# Altium footprint library curgen.PcbLib: 17 footprints (part 1 of 2)
Each footprint in its own frame and in the unit in brackets; x right, y up, seen from the top. Pads: shape width x height; smd on the part's side, far side on the other; paste and mask are expansions set on the pad; w line width, h text height; cw(c..) or ccw(c..) is an arc to the next point about the centre after c.
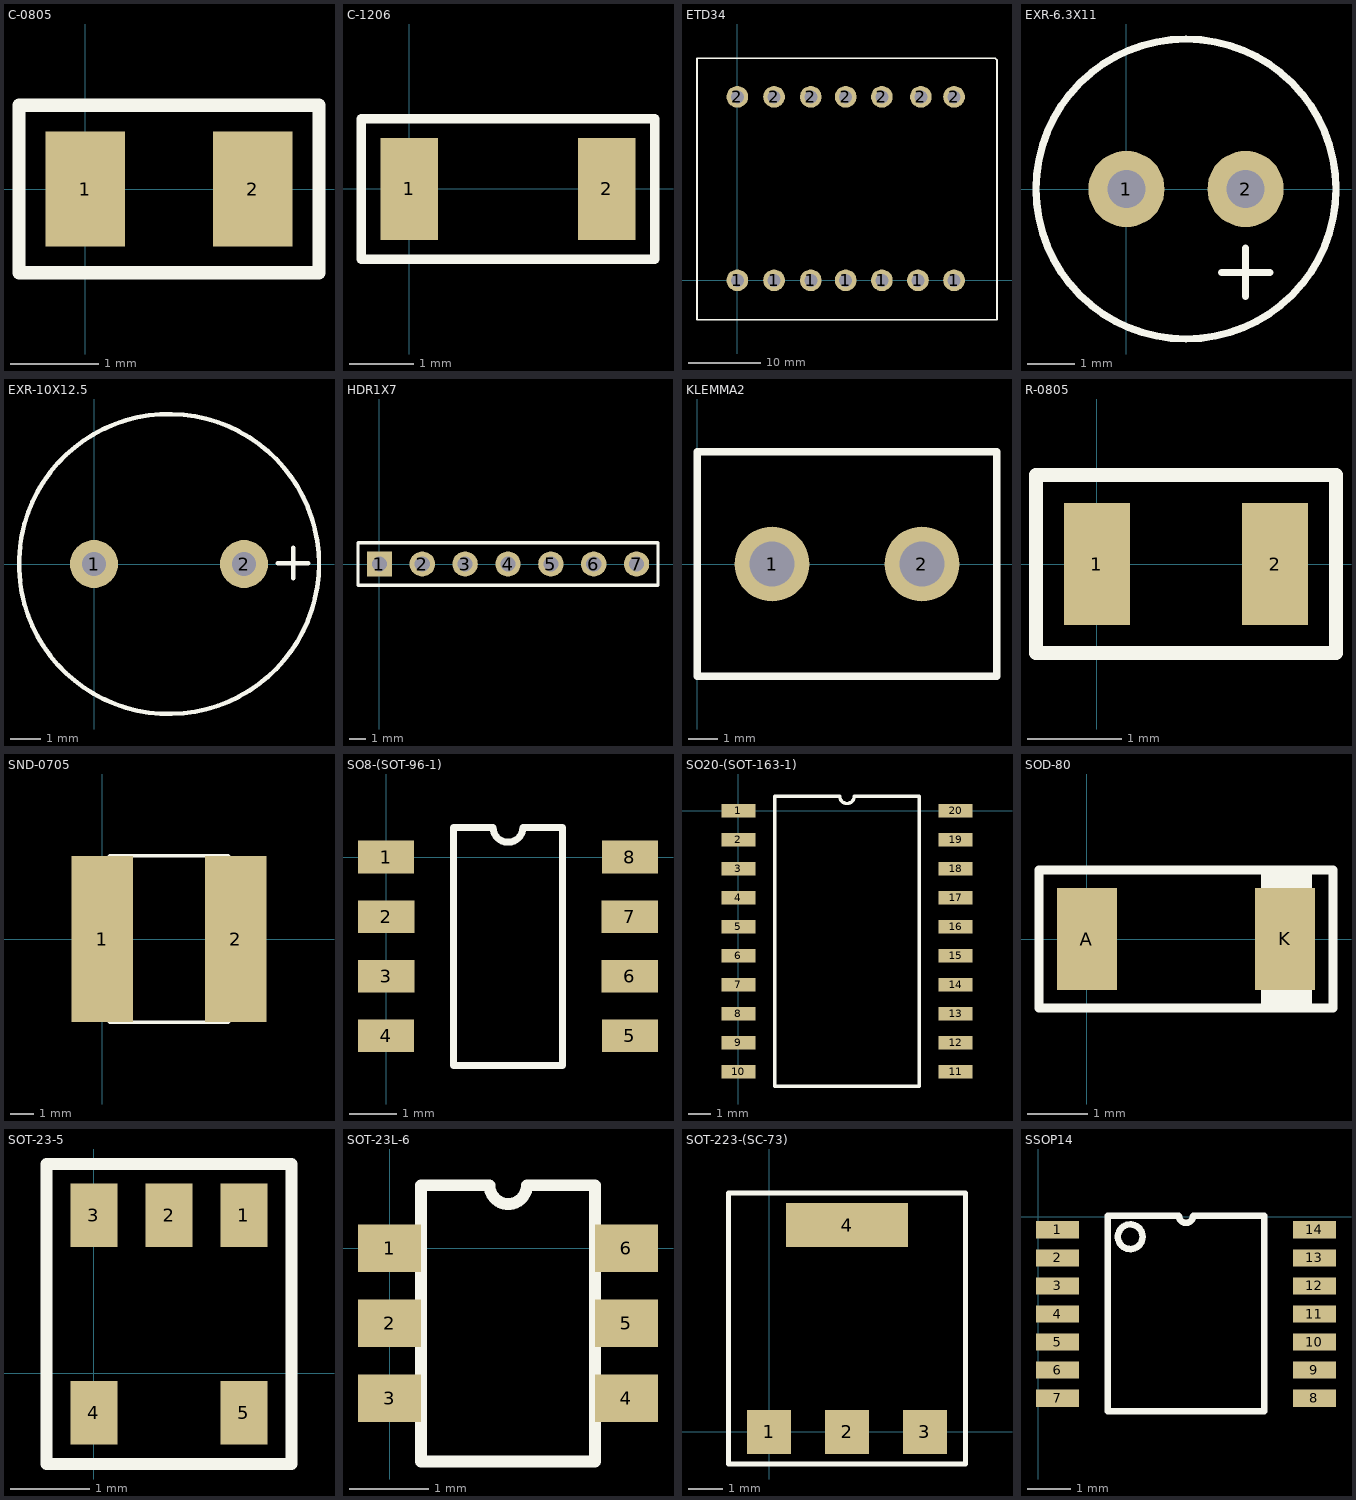
[diagram p0: the footprints below, top view; thin cyan lines are the x and y axes]

## C-0805 [mm]
pads (2):
  rect 0.9x1.3 smd: 1(0,0) 2(1.9,0)
Top Overlay:
  lines w0.15: -0.75,-0.95 2.65,-0.95 2.65,0.95 -0.75,0.95 -0.75,0 -0.75,-0.95

## C-1206 [mm]
pads (2):
  rect 0.9x1.6 smd: 1(0,0) 2(3.1,0)
Top Overlay:
  lines w0.15: -0.75,-1.1 3.85,-1.1 3.85,1.1 -0.75,1.1 -0.75,0 -0.75,-1.1

## ETD34 [mm]
pads (14):
  round 3 hole 1.8: 1(0,0) 1(5.08,0) 1(10.16,0) 1(15,0) 1(20,0) 1(25,0) 1(30,0) 2(0,25.4) 2(5.08,25.4) 2(10.16,25.4) 2(15,25.4) 2(20,25.4) 2(25.4,25.4) 2(30,25.4)
Top Overlay:
  lines w0.254: -5.588,-5.461 -5.588,30.734 35.687,30.734 35.941,30.48 35.941,-5.461 -5.588,-5.461

## EXR-6.3X11 [mm]
pads (2):
  round 1.6 hole 0.8: 1(0,0) 2(2.5,0)
Top Overlay:
  circle w0.15: c1.25,0 r3.15
  lines w0.15: 1.992,-1.75 3.008,-1.75 ; 2.5,-2.258 2.5,-1.242

## EXR-10X12.5 [mm]
pads (2):
  round 1.6 hole 0.8: 1(0,0) 2(5,0)
Top Overlay:
  circle w0.15: c2.5,0 r5
  lines w0.15: 6.132,0.03 7.148,0.03 ; 6.64,-0.478 6.64,0.538

## HDR1X7 [mm] "Connector; Header; 7 Position"
pads (7):
  rect 1.5x1.5 hole 0.9: 1(0,0)
  round 1.5 hole 0.9: 2(2.54,0) 3(5.08,0) 4(7.62,0) 5(10.16,0) 6(12.7,0) 7(15.24,0)
Top Overlay:
  lines w0.2: -1.27,-1.27 -1.27,1.27 16.51,1.27 16.51,-1.27 -1.27,-1.27

## KLEMMA2 [mil]
pads (2):
  round 100 hole 60: 1(100,0) 2(300,0)
Top Overlay:
  lines w10: 0,-150 0,150 400,150 400,-150 0,-150

## R-0805 [mm]
pads (2):
  rect 0.7x1.3 smd: 1(0,0) 2(1.9,0)
Top Overlay:
  lines w0.15: -0.65,-0.95 2.55,-0.95 2.55,0.95 -0.65,0.95 -0.65,0 -0.65,-0.95

## SND-0705 [mm]
pads (2):
  rect 2.6x7 smd: 1(0,0) 2(5.625,0)
Top Overlay:
  lines w0.15: 0.325,-3.5 cw(c3.825,0) 0.325,3.5 5.3,3.5 cw(c1.8,0) 5.3,-3.5 0.325,-3.5

## SO8-(SOT-96-1) [mm]
pads (8):
  rect 1.2x0.7 smd: 1(0,0) 2(0,-1.27) 3(0,-2.54) 4(0,-3.81) 5(5.2,-3.81) 6(5.2,-2.54) 7(5.2,-1.27) 8(5.2,0)
Top Overlay:
  lines w0.15: 1.435,-4.445 3.765,-4.445 3.765,0.635 2.918,0.635 cw(c2.6,0.635) 2.283,0.635 1.435,0.635 1.435,-4.445

## SO20-(SOT-163-1) [mm]
pads (20):
  rect 1.5x0.6 smd: 1(0,0) 2(0,-1.27) 3(0,-2.54) 4(0,-3.81) 5(0,-5.08) 6(0,-6.35) 7(0,-7.62) 8(0,-8.89) 9(0,-10.16) 10(0,-11.43) 11(9.5,-11.43) 12(9.5,-10.16) 13(9.5,-8.89) 14(9.5,-7.62) 15(9.5,-6.35) 16(9.5,-5.08) 17(9.5,-3.81) 18(9.5,-2.54) 19(9.5,-1.27) 20(9.5,0)
Top Overlay:
  lines w0.15: 1.585,-12.065 1.585,0.635 4.432,0.635 ccw(c4.75,0.635) 5.068,0.635 7.915,0.635 7.915,-12.065 1.585,-12.065

## SOD-80 [mm]
pads (2):
  rect 1x1.7 smd: A(0,0) K(3.3,0)
Top Overlay:
  rectangle: 2.9,-1.15 3.75,1.15
  lines w0.15: -0.8,-1.15 4.1,-1.15 4.1,1.15 -0.8,1.15 -0.8,0 -0.8,-1.15

## SOT-23-5 [mm]
pads (5):
  rect 0.6x0.8 smd: 1(1.9,2) 2(0.95,2) 3(0,2) 4(0,-0.5) 5(1.9,-0.5)
Top Overlay:
  lines w0.15: -0.6,-1.15 2.5,-1.15 2.5,2.65 -0.6,2.65 -0.6,-1.15

## SOT-23L-6 [mm]
pads (6):
  rect 0.8x0.6 smd: 1(0,0) 2(0,-0.95) 3(0,-1.9) 4(3,-1.9) 5(3,-0.95) 6(3,0)
Top Overlay:
  lines w0.15: 0.4,-2.7 0.4,0.8 1.265,0.8 ccw(c1.502,0.8) 1.74,0.8 2.6,0.8 2.6,-2.7 0.4,-2.7

## SOT-223-(SC-73) [mm]
pads (4):
  rect 1.3x1.3 smd: 1(0,0) 2(2.3,0) 3(4.6,0)
  rect 3.6x1.3 smd: 4(2.3,6.1)
Top Overlay:
  lines w0.15: -1.2,-0.95 -1.2,7.05 5.8,7.05 5.8,-0.95 -1.2,-0.95

## SSOP14 [mm]
pads (14):
  rect 1x0.4 smd: 1(0.45,-0.3) 2(0.45,-0.95) 3(0.45,-1.6) 4(0.45,-2.25) 5(0.45,-2.9) 6(0.45,-3.55) 7(0.45,-4.2) 8(6.4,-4.2) 9(6.4,-3.55) 10(6.4,-2.9) 11(6.4,-2.25) 12(6.4,-1.6) 13(6.4,-0.95) 14(6.4,-0.3)
Top Overlay:
  circle w0.15: c2.134,-0.46 r0.286
  lines w0.15: 1.61,-4.5 1.61,0.025 3.263,0.025 ccw(c3.425,0.025) 3.588,0.025 5.24,0.025 5.24,-4.5 1.61,-4.5